# EAGLE library part WM8731 (library mankell-proto)
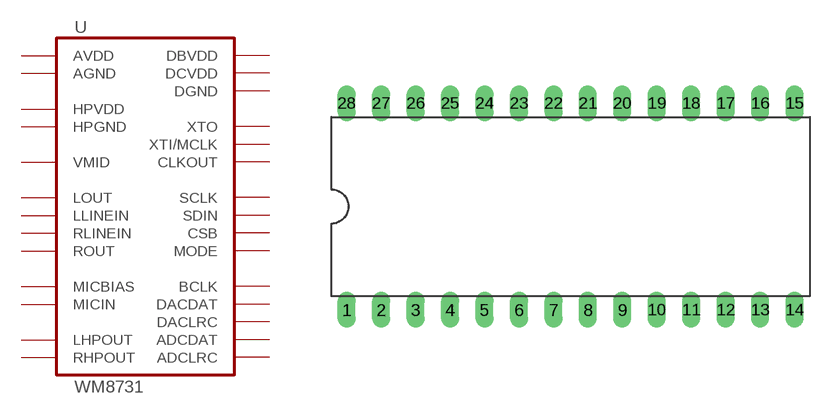
[diagram p0: symbol with the pads of DIL28-6; footprint DIL28-6]

Designator prefix -

## WM8731  [DIL28-6]
1  DBVDD  pwr
2  CLKOUT  out
3  BCLK
4  DACDAT  in
5  DACLRC
6  ADCDAT  out
7  ADCLRC
8  HPVDD  pwr
9  LHPOUT  out
10  RHPOUT  out
11  HPGND  pwr
12  LOUT  out
13  ROUT  out
14  AVDD  pwr
15  AGND  pwr
16  VMID  out
17  MICBIAS  out
18  MICIN  in
19  RLINEIN  in
20  LLINEIN  in
21  MODE  in
22  CSB  in
23  SDIN
24  SCLK  in
25  XTI/MCLK  in
26  XTO  out
27  DCVDD  pwr
28  DGND  pwr

## Footprint DIL28-6 (pad centres in mm)
Dual In Line Package 0.6 inch
drill 0.813 long: 1 -16.51,-7.62; 2 -13.97,-7.62; 3 -11.43,-7.62; 4 -8.89,-7.62; 5 -6.35,-7.62; 6 -3.81,-7.62; 7 -1.27,-7.62; 8 1.27,-7.62; 9 3.81,-7.62; 10 6.35,-7.62; 11 8.89,-7.62; 12 11.43,-7.62; 13 13.97,-7.62; 14 16.51,-7.62; 15 16.51,7.62; 16 13.97,7.62; 17 11.43,7.62; 18 8.89,7.62; 19 6.35,7.62; 20 3.81,7.62; 21 1.27,7.62; 22 -1.27,7.62; 23 -3.81,7.62; 24 -6.35,7.62; 25 -8.89,7.62; 26 -11.43,7.62; 27 -13.97,7.62; 28 -16.51,7.62